# EAGLE library part MCP4451 (library untitled)
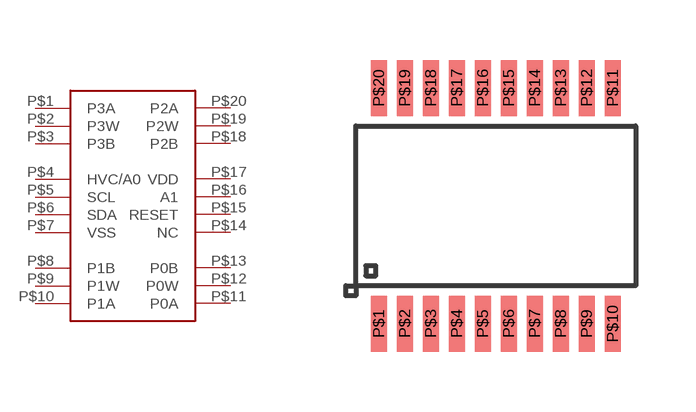
[diagram p18: symbol with the pads of TSSOP20; footprint TSSOP20]

Designator prefix -

## MCP4451  [TSSOP20]
P$1  P3A
P$2  P3W
P$3  P3B
P$4  HVC/A0
P$5  SCL
P$6  SDA
P$7  VSS
P$8  P1B
P$9  P1W
P$10  P1A
P$11  P0A
P$12  P0W
P$13  P0B
P$14  NC
P$15  RESET
P$16  A1
P$17  VDD
P$18  P2B
P$19  P2W
P$20  P2A

## Footprint TSSOP20 (pad centres in mm)
smd 0.4 x 1.4: P$1 -2.925,-2.95; P$2 -2.275,-2.95; P$3 -1.625,-2.95; P$4 -0.975,-2.95; P$5 -0.325,-2.95; P$6 0.325,-2.95; P$7 0.975,-2.95; P$8 1.625,-2.95; P$9 2.275,-2.95; P$10 2.925,-2.95; P$11 2.925,2.95; P$12 2.275,2.95; P$13 1.625,2.95; P$14 0.975,2.95; P$15 0.325,2.95; P$16 -0.325,2.95; P$17 -0.975,2.95; P$18 -1.625,2.95; P$19 -2.275,2.95; P$20 -2.925,2.95